# Altium footprint library RESRR502W81L1067T344H2058.PcbLib: 1 footprints
Each footprint in its own frame and in the unit in brackets; x right, y up, seen from the top. Pads: shape width x height; smd on the part's side, far side on the other; paste and mask are expansions set on the pad; w line width, h text height; cw(c..) or ccw(c..) is an arc to the next point about the centre after c.
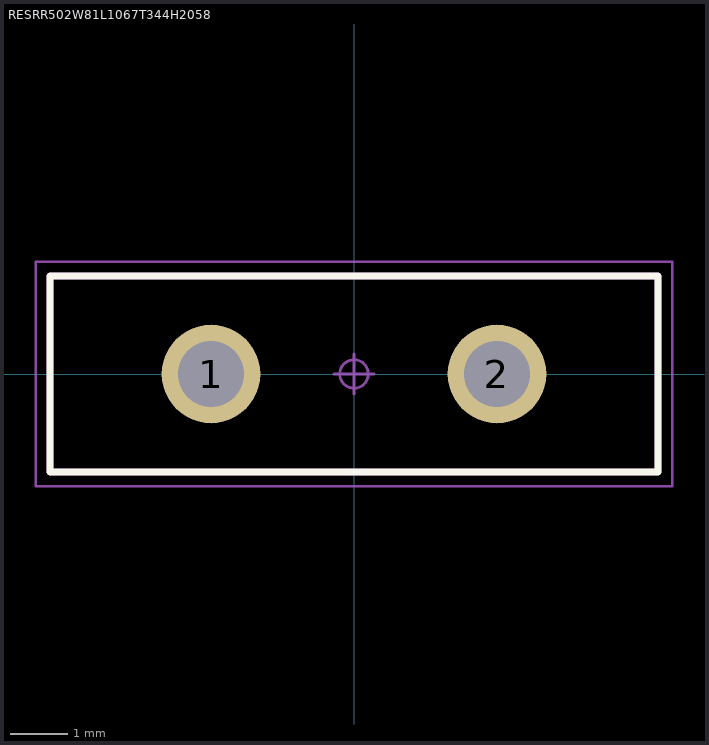
[diagram p0: the footprint, top view; thin cyan lines are the x and y axes]

## RESRR502W81L1067T344H2058 [mm] "Resistor, Radial (Dipped) rect.; 5.02 mm pitch X 0.81 mm W X 10.67 mm L X 3.44 mm T X 20.58 mm H body"
height 20.58
pads (2):
  round 1.73 hole 1.15 paste-1.73: 1(-2.51,0) 2(2.51,0)
Top Overlay:
  lines w0.12: -5.335,-1.72 5.335,-1.72 5.335,1.72 -5.335,1.72 -5.335,-1.72
Mechanical 3:
  lines w0.12: -5.335,-1.72 5.335,-1.72 5.335,1.72 -5.335,1.72 -5.335,-1.72
Mechanical 5:
  circle w0.025: c2.51,0 r0.48
  circle w0.025: c-2.51,0 r0.48
  lines w0.025: -5.335,-1.72 5.335,-1.72 5.335,1.72 -5.335,1.72 -5.335,-1.72
Mechanical 7:
  circle w0.05: c0,0 r0.25
  lines w0.05: -0.35,0 0.35,0 ; 0,-0.35 0,0.35 ; -5.585,-1.97 -5.585,1.97 5.585,1.97 5.585,-1.97 -5.585,-1.97
Mechanical 9:
  text ".Designator" at -5.334,-1.778 h0.64
3D body: height 0.25, standoff 0, extent 0,0 0.254,0.254
3D body "RESRR502W81L1067T344H2058.STEP": height 20.58, standoff -2, extent -5.273,-1.763 5.397,1.677